# Altium footprint library RE_TRIM-BOURNS.PcbLib: 1 footprints
Each footprint in its own frame and in the unit in brackets; x right, y up, seen from the top. Pads: shape width x height; smd on the part's side, far side on the other; paste and mask are expansions set on the pad; w line width, h text height; cw(c..) or ccw(c..) is an arc to the next point about the centre after c.
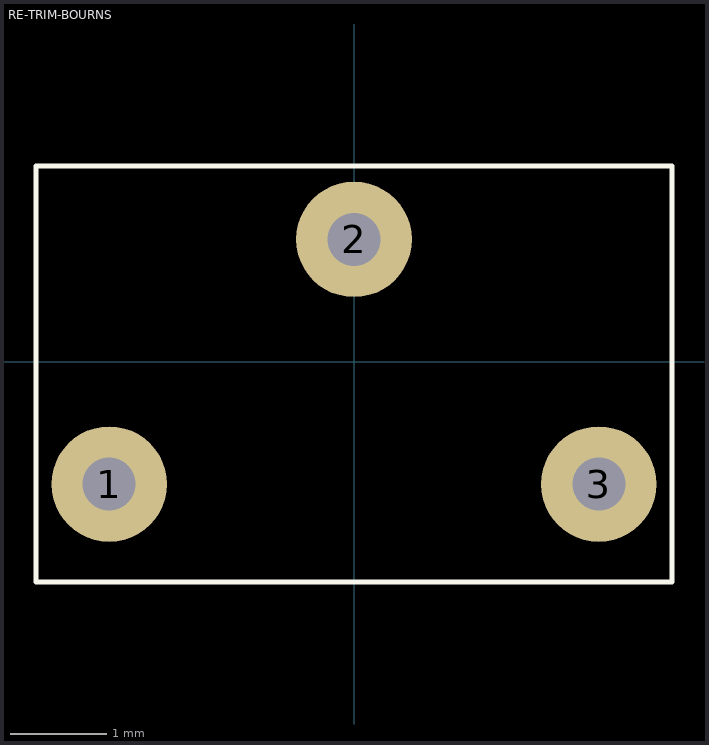
[diagram p0: the footprint, top view; thin cyan lines are the x and y axes]

## RE-TRIM-BOURNS [mm]
pads (3):
  round 1.2 hole 0.55: 1(-2.54,-1.27) 2(0,1.27) 3(2.54,-1.27)
Top Overlay:
  lines w0.051: -3.302,-2.286 -3.302,2.032 3.302,2.032 3.302,-2.286 -3.302,-2.286
3D body: height 7.38, standoff -1.89, extent -3.302,-2.286 3.048,2.032